# Altium footprint library 0901301112.PcbLib: 1 footprints
Each footprint in its own frame and in the unit in brackets; x right, y up, seen from the top. Pads: shape width x height; smd on the part's side, far side on the other; paste and mask are expansions set on the pad; w line width, h text height; cw(c..) or ccw(c..) is an arc to the next point about the centre after c.
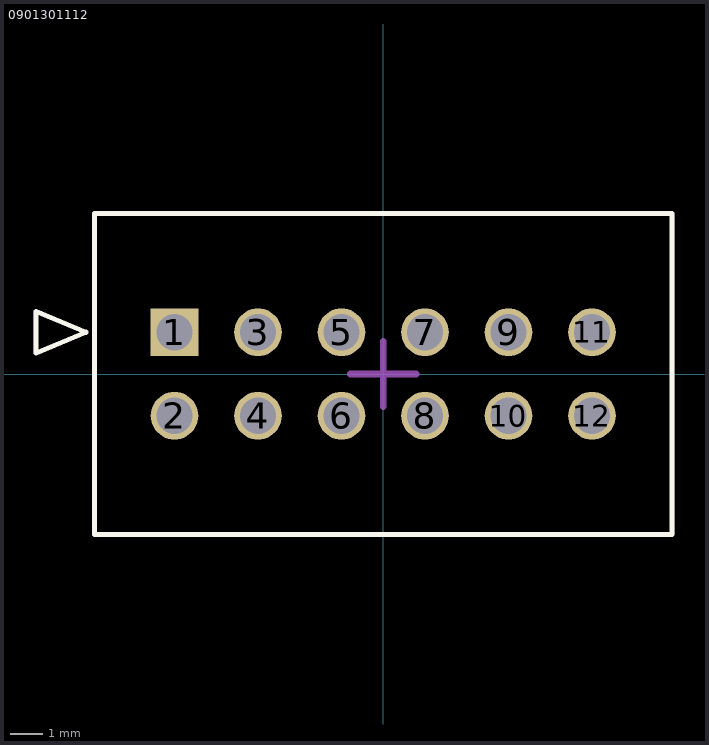
[diagram p0: the footprint, top view; thin cyan lines are the x and y axes]

## 0901301112 [mm]
pads (12):
  rect 1.45x1.45 / inner rect 1.35x1.35 / far side rect 1.35x1.35 hole 1.1 mask+0: 1(-6.35,1.27)
  round 1.45 / inner round 1.35 / far side round 1.35 hole 1.1 mask+0: 2(-6.35,-1.27) 3(-3.81,1.27) 4(-3.81,-1.27) 5(-1.27,1.27) 6(-1.27,-1.27) 7(1.27,1.27) 8(1.27,-1.27) 9(3.81,1.27) 10(3.81,-1.27) 11(6.35,1.27) 12(6.35,-1.27)
Top Overlay:
  lines w0.152: -10.568,0.635 -9.044,1.27 -10.568,1.905 -10.568,0.635 ; -8.79,-4.875 8.79,-4.875 8.79,4.875 -8.79,4.875 -8.79,-4.875
Mechanical 13:
  lines w0.127: -10.568,0.635 -9.044,1.27 -10.568,1.905 -10.568,0.635 ; -8.79,-4.875 -8.79,4.875 8.79,4.875 8.79,-4.875 -8.79,-4.875
Mechanical 15:
  lines w0.2: -1,0 0,0 ; 0,-1 0,0 ; 0,1 0,0 ; 1,0 0,0
3D body "901301112.stp": height 10.06, standoff -3.74, extent -8.79,-4.875 8.79,4.875